# Altium schematic symbol library DIO-GEN.SchLib: 1 symbol
Pins are listed as number, name and electrical type; pins without a type are passive.

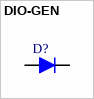
[diagram p0: symbol DIO-GEN]

## DIO-GEN
designator D?  (value not drawn)
pins: A, K